# Altium footprint library PCB - LEADLESS - QFN - Semtech QFN-16 3x3MM.PcbLib: 1 footprints
Each footprint in its own frame and in the unit in brackets; x right, y up, seen from the top. Pads: shape width x height; smd on the part's side, far side on the other; paste and mask are expansions set on the pad; w line width, h text height; cw(c..) or ccw(c..) is an arc to the next point about the centre after c.
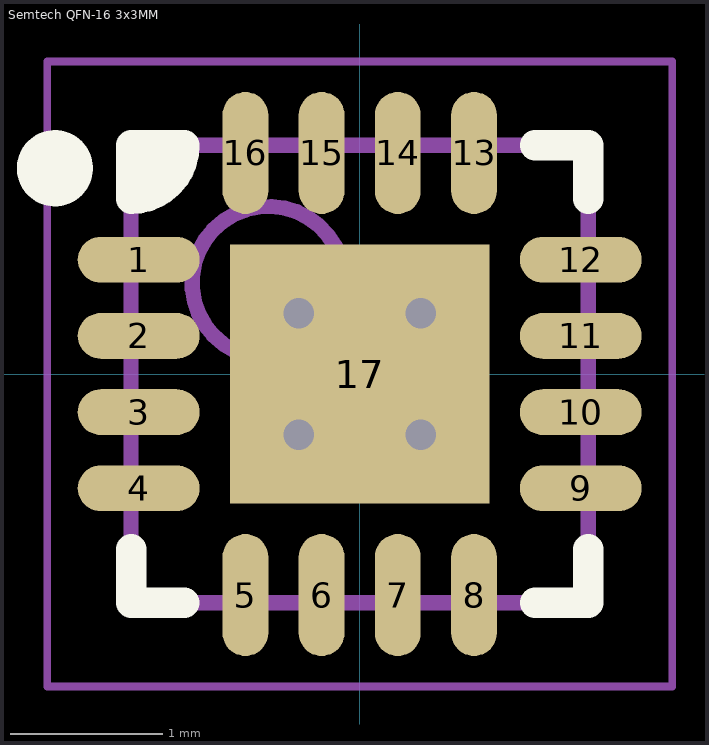
[diagram p0: the footprint, top view; thin cyan lines are the x and y axes]

## Semtech QFN-16 3x3MM [mm] "QFN, 16-Leads, Body 3.00x3.00mm, Pitch 0.50mm, Thermal Pad 1.70x1.70mm, IPC Medium Density"
height 1
pads (17):
  oval 0.8x0.3 smd: 1(-1.45,0.75) 2(-1.45,0.25) 3(-1.45,-0.25) 4(-1.45,-0.75) 9(1.45,-0.75) 10(1.45,-0.25) 11(1.45,0.25) 12(1.45,0.75)
  oval 0.3x0.8 smd: 5(-0.75,-1.45) 6(-0.25,-1.45) 7(0.25,-1.45) 8(0.75,-1.45) 13(0.75,1.45) 14(0.25,1.45) 15(-0.25,1.45) 16(-0.75,1.45)
  rect 1.7x1.7 smd: 17(0,0)
via 0.4,-0.4 diameter 0.5 hole 0.2
via 0.4,0.4 diameter 0.5 hole 0.2
via -0.4,0.4 diameter 0.5 hole 0.2
via -0.4,-0.4 diameter 0.5 hole 0.2
Top Overlay:
  circle w0.25: c-2,1.35 r0.125
  region: -1.5,1.478 -1.2,1.478 -1.4,1.178
  lines w0.2: -1.5,-1.15 -1.5,-1.5 -1.15,-1.5 ; 1.15,-1.5 1.5,-1.5 1.5,-1.15 ; 1.15,1.5 1.5,1.5 1.5,1.15 ; -1.5,1.15 ccw(c-1.5,1.5) -1.15,1.5 -1.5,1.5 -1.5,1.15
Mechanical 13:
  circle w0.1: c-0.6,0.6 r0.5
  lines w0.1: -1.5,-1.5 -1.5,1.5 1.5,1.5 1.5,-1.5 -1.5,-1.5
Mechanical 15:
  lines w0.05: -2.05,-2.05 -2.05,2.05 2.05,2.05 2.05,-2.05 -2.05,-2.05
  lines w0.1: -0.5,0 0.5,0 ; 0,-0.5 0,0.5
3D body "QFN50P300X300X100_HS-17N.step": height 1, standoff 0, extent -1.501,-1.501 1.501,1.501